# EAGLE library part CAT24C32WI-GT3 (library collin)
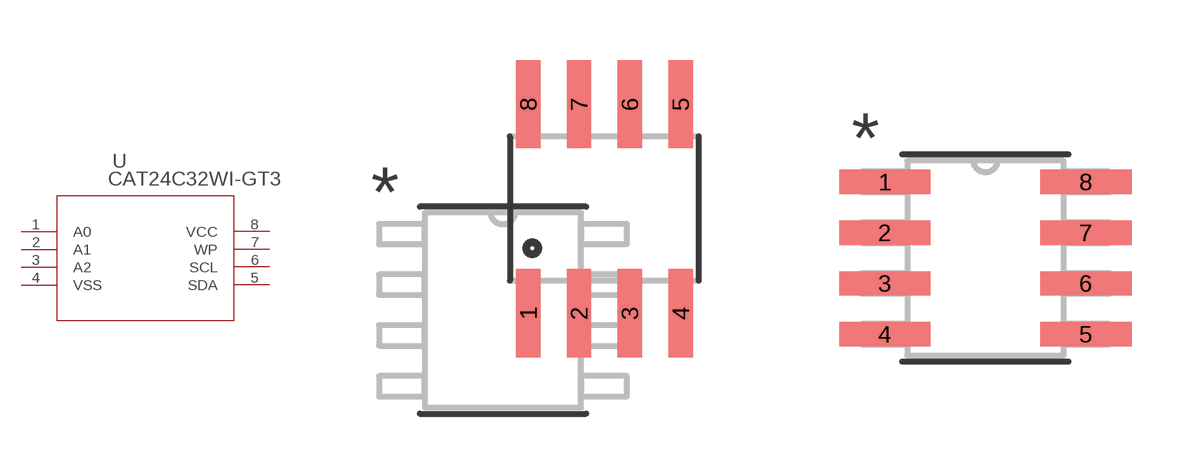
[diagram p12: symbol with the pads of SOIC8; footprints SOIC8, SOIC8-M]

Designator prefix U

## CAT24C32WI-GT3 (MANUFACTURER_PART_NUMBER: CAT24C32WIGT3; VENDOR: ON Semiconductor)  [SOIC8]
1  A0  pas
2  A1  pas
3  A2  pas
4  VSS  pwr
5  SDA  pas
6  SCL  pas
7  WP  pas
8  VCC  pwr

## CAT24C32WI-GT3SOIC8-M (MANUFACTURER_PART_NUMBER: CAT24C32WIGT3; VENDOR: ON Semiconductor)  [SOIC8-M]
Pads as for SOIC8

## CAT24C32WI-GT3SOIC8-L (MANUFACTURER_PART_NUMBER: CAT24C32WIGT3; VENDOR: ON Semiconductor)  [SOIC8-L]
Pads as for SOIC8

## Footprint SOIC8 (pad centres in mm)
smd 0.61 x 2.21: 1 0.635,-0.076; 2 1.905,-0.076; 3 3.175,-0.076; 4 4.445,-0.076; 5 4.445,5.156; 6 3.175,5.156; 7 1.905,5.156; 8 0.635,5.156

## Footprint SOIC8-M (pad centres in mm)
smd 2.286 x 0.61: 1 -2.515,1.905; 2 -2.515,0.635; 3 -2.515,-0.635; 4 -2.515,-1.905; 5 2.515,-1.905; 6 2.515,-0.635; 7 2.515,0.635; 8 2.515,1.905

## Footprint SOIC8-L (pad centres in mm)
smd 1.676 x 0.508: 1 -2.413,1.905; 2 -2.413,0.635; 3 -2.413,-0.635; 4 -2.413,-1.905; 5 2.413,-1.905; 6 2.413,-0.635; 7 2.413,0.635; 8 2.413,1.905